# Altium schematic symbol library BLEUART1.SchLib: 1 symbol
Pins are listed as number, name and electrical type; pins without a type are passive.

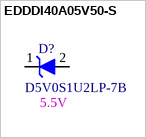
[diagram p0: symbol EDDDI40A05V50-S]

## EDDDI40A05V50-S
designator D?, comment value D5V0S1U2LP-7B  1st Auxiliary Field: 5.5V  (hidden comment: TRANSIENT VOLTAGE SUPPRESSOR PP)
Manufacturer: Diodes Incorporated; Internal Part Number: EDDDI40A05V50-S; Vendor Part Number: 31-D5V0S1U2LP-7BCT-ND; 2nd Auxiliary Field: 40A; 3rd Auxiliary Field: RoHS3 Compliant; Component Height (mm): 0.53mm; Temp Co: -65°C ~ 150°C (TJ); 4th Auxiliary Field: Unidirectional; Vendor Name: Digi-Key; Manufacturer Part Number: D5V0S1U2LP-7B; Part Type: TRANSIENT VOLTAGE SUPPRESSOR PP
footprint DFN100X60X53-2N
pins: 1 CATHODE, 2 ANODE